# Altium footprint library KNOWLES_SPK0641HT4H-1.PcbLib: 1 footprints
Each footprint in its own frame and in the unit in brackets; x right, y up, seen from the top. Pads: shape width x height; smd on the part's side, far side on the other; paste and mask are expansions set on the pad; w line width, h text height; cw(c..) or ccw(c..) is an arc to the next point about the centre after c.
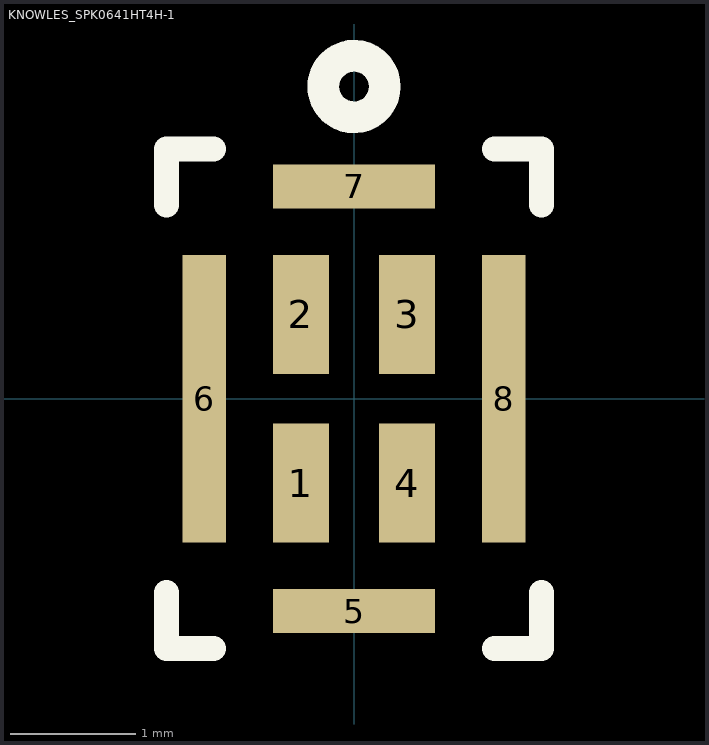
[diagram p0: the footprint, top view; thin cyan lines are the x and y axes]

## KNOWLES_SPK0641HT4H-1 [mm]
pads (8):
  rect 0.45x0.95 smd: 1(-0.425,-0.675) 2(-0.425,0.675) 3(0.425,0.675) 4(0.425,-0.675)
  rect 1.3x0.35 smd: 5(0,-1.7) 7(0,1.7)
  rect 0.35x2.3 smd: 6(-1.2,0) 8(1.2,0)
Top Overlay:
  circle w0.254: c0,2.5 r0.246
  lines w0.2: -1.5,-1.55 -1.5,-2 -1.125,-2 ; -1.5,1.55 -1.5,2 -1.125,2 ; 1.125,-2 1.5,-2 1.5,-1.55 ; 1.125,2 1.5,2 1.5,1.55
3D body: height 1, standoff 0, extent -1.5,-2 1.5,2
3D body: height 0.25, standoff -5.05, extent 0.025,0 0.025,0